# Altium schematic symbol library DCDC.SchLib: 4 symbols
Pins are listed as number, name and electrical type; pins without a type are passive.

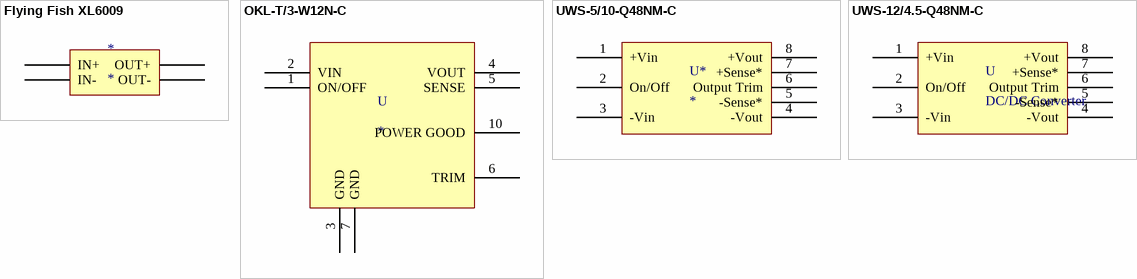
[diagram p0: symbols Flying Fish XL6009 to UWS-12/4.5-Q48NM-C]

## Flying Fish XL6009
designator *
footprint Flying Fish XL6009
pins: IN+, IN-, OUT+, OUT-

## OKL-T/3-W12N-C
designator U
12V to 0.6V-5.5V, 15W; Manufacturing Name: Murata Power Solutions; Manufacturing Part Nr.: OKL-T/3-W12N-C; Value: 12V To (0.591V-5.5V) Output, 15W, 3A; DataLink: https://de.rs-online.com/web/p/dc-dc-wandler-nicht-isoliert/6894703/; Datasheet: https://docs-emea.rs-online.com/webdocs/0da5/0900766b80da525e.pdf; Supplier Name: RS; Supplier Part Nr.: 689-4703; Type: DC/DC Wandler; Price: 5,78 €
pins: 1 ON/OFF, 2 VIN, 3 GND, 4 VOUT, 5 SENSE, 6 TRIM, 7 GND, 10 POWER GOOD

## UWS-5/10-Q48NM-C
designator U*
18V-75V to 5V, 50W; Manufacturing Name: Murata Power Solutions Inc.; Manufacturing Part Nr.: UWS-5/10-Q48NM-C; Value: Input: 18V-75V, Output: 5V, 50W; Link: https://www.digikey.de/product-detail/de/murata-power-solutions-inc/UWS-5-10-Q48NM-C/811-2364-1-ND/3041710; Datasheet: https://power.murata.com/pub/data/power/uws.pdf; Supplier Name: Digikey; Supplier Part Nr.: 811-2364-1-ND; Type: DC DC CONVERTER 5V 50W; Price: 28,66 €
pins: 1 +Vin, 2 On/Off, 3 -Vin, 4 -Vout, 5 -Sense*, 6 Output Trim, 7 +Sense*, 8 +Vout

## UWS-12/4.5-Q48NM-C
designator U, comment DC/DC Converter
18V-75V to 12V, 54W; Manufacturing Name: Murata Power Solutions Inc.; Manufacturing Part Nr.: UWS-12/4.5-Q48NM-C; Value: Input: 18V-75V, Output: 12V, 4.5A, 54W; Datasheet: https://power.murata.com/pub/data/power/uws.pdf; Datalink: https://www.digikey.de/product-detail/de/murata-power-solutions-inc/UWS-12-4.5-Q48NM-C/811-2366-1-ND/3041706; Supplier Name: Digikey; Supplier Part Nr.: 811-2366-1-ND; Price: 28,25000; Type: DC/DC Converter, SMD
pins: 1 +Vin, 2 On/Off, 3 -Vin, 4 -Vout, 5 -Sense*, 6 Output Trim, 7 +Sense*, 8 +Vout